# EAGLE library part PIOCONN (library pixel)
CONNECTOR 68-pin 1.27mm (.050 inch) pitch SCSI+ unshielded receptacle right angle all plastic
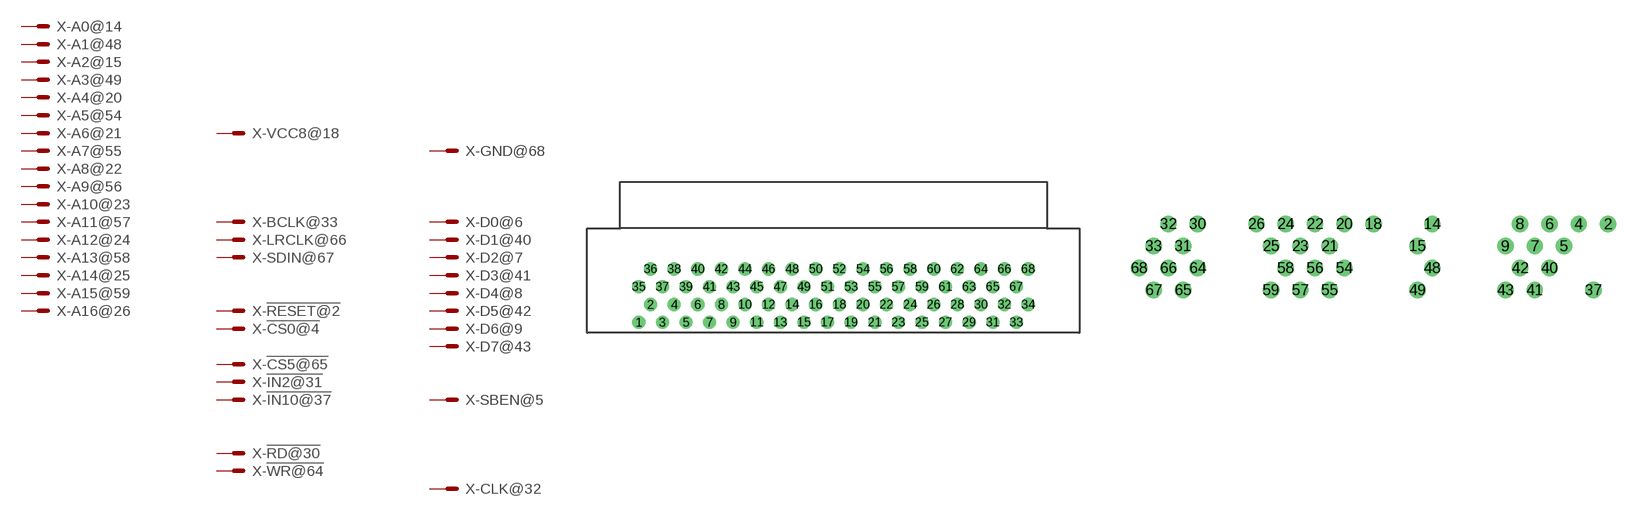
[diagram p17: symbol with the pads of PIOCONN-R; footprints PIOCONN-R, PIOCONN]

Designator prefix X; gates -!RESET@2=M -!CS0@4=M -SBEN@5=M -D0@6=M -D2@7=M -D4@8=M -D6@9=M -A0@14=M -A2@15=M -VCC8@18=M -A4@20=M -A6@21=M -A8@22=M -A10@23=M -A12@24=M -A14@25=M -A16@26=M -!RD@30=M -!IN2@31=M -CLK@32=M -BCLK@33=M -!IN10@37=M -D1@40=M -D3@41=M -D5@42=M -D7@43=M -A1@48=M -A3@49=M -A5@54=M -A7@55=M -A9@56=M -A11@57=M -A13@58=M -A15@59=M -!WR@64=M -!CS5@65=M -LRCLK@66=M -SDIN@67=M -GND@68=M

## PIOCONNPIOCONN-R (MF: MOLEX; OC_FARNELL: unknown; OC_NEWARK: unknown)  [PIOCONN-R]
2  -!RESET@2:S  pas
4  -!CS0@4:S  pas
5  -SBEN@5:S  pas
6  -D0@6:S  pas
7  -D2@7:S  pas
8  -D4@8:S  pas
9  -D6@9:S  pas
14  -A0@14:S  pas
15  -A2@15:S  pas
18  -VCC8@18:S  pas
20  -A4@20:S  pas
21  -A6@21:S  pas
22  -A8@22:S  pas
23  -A10@23:S  pas
24  -A12@24:S  pas
25  -A14@25:S  pas
26  -A16@26:S  pas
30  -!RD@30:S  pas
31  -!IN2@31:S  pas
32  -CLK@32:S  pas
33  -BCLK@33:S  pas
37  -!IN10@37:S  pas
40  -D1@40:S  pas
41  -D3@41:S  pas
42  -D5@42:S  pas
43  -D7@43:S  pas
48  -A1@48:S  pas
49  -A3@49:S  pas
54  -A5@54:S  pas
55  -A7@55:S  pas
56  -A9@56:S  pas
57  -A11@57:S  pas
58  -A13@58:S  pas
59  -A15@59:S  pas
64  -!WR@64:S  pas
65  -!CS5@65:S  pas
66  -LRCLK@66:S  pas
67  -SDIN@67:S  pas
68  -GND@68:S  pas

## PIOCONNPIOCONN-S  [PIOCONN]
Pads as for PIOCONN-R

## Footprint PIOCONN-R (pad centres in mm)
drill 0.9 pad 1.27: 1 -20.955,-5.73; 2 -19.685,-3.82; 3 -18.415,-5.73; 4 -17.145,-3.82; 5 -15.875,-5.73; 6 -14.605,-3.82; 7 -13.335,-5.73; 8 -12.065,-3.82; 9 -10.795,-5.73; 10 -9.525,-3.82; 11 -8.255,-5.73; 12 -6.985,-3.82; 13 -5.715,-5.73; 14 -4.445,-3.82; 15 -3.175,-5.73; 16 -1.905,-3.82; 17 -0.635,-5.73; 18 0.635,-3.82; 19 1.905,-5.73; 20 3.175,-3.82; 21 4.445,-5.73; 22 5.715,-3.82; 23 6.985,-5.73; 24 8.255,-3.82; 25 9.525,-5.73; 26 10.795,-3.82; 27 12.065,-5.73; 28 13.335,-3.82; 29 14.605,-5.73; 30 15.875,-3.82; 31 17.145,-5.73; 32 18.415,-3.82; 33 19.685,-5.73; 34 20.955,-3.82; 35 -20.955,-1.91; 36 -19.685,0; 37 -18.415,-1.91; 38 -17.145,0; 39 -15.875,-1.91; 40 -14.605,0; 41 -13.335,-1.91; 42 -12.065,0; 43 -10.795,-1.91; 44 -9.525,0; 45 -8.255,-1.91; 46 -6.985,0; 47 -5.715,-1.91; 48 -4.445,0; 49 -3.175,-1.91; 50 -1.905,0; 51 -0.635,-1.91; 52 0.635,0; 53 1.905,-1.91; 54 3.175,0; 55 4.445,-1.91; 56 5.715,0; 57 6.985,-1.91; 58 8.255,0; 59 9.525,-1.91; 60 10.795,0; 61 12.065,-1.91; 62 13.335,0; 63 14.605,-1.91; 64 15.875,0; 65 17.145,-1.91; 66 18.415,0; 67 19.685,-1.91; 68 20.955,0

## Footprint PIOCONN (pad centres in mm)
TE CONNECTIVITY / AMP - BUCHSE, SCSI, VERTIKAL, 68 Source: Data sheet <http://www.tycoelectronics.com/commerce/DocumentDelivery/DDEController?Action=srchrtrv&DocNm=5749069&DocType=Customer+Drawing&DocLang=English>
drill 0.9 pad 1.27: 2 19.685,2.863; 4 17.145,2.863; 5 15.875,0.953; 6 14.605,2.863; 7 13.335,0.953; 8 12.065,2.863; 9 10.795,0.953; 14 4.445,2.863; 15 3.175,0.953; 18 -0.635,2.863; 20 -3.175,2.863; 21 -4.445,0.953; 22 -5.715,2.863; 23 -6.985,0.953; 24 -8.255,2.863; 25 -9.525,0.953; 26 -10.795,2.863; 30 -15.875,2.863; 31 -17.145,0.953; 32 -18.415,2.863; 33 -19.685,0.953; 37 18.415,-2.867; 40 14.605,-0.957; 41 13.335,-2.867; 42 12.065,-0.957; 43 10.795,-2.867; 48 4.445,-0.957; 49 3.175,-2.867; 54 -3.175,-0.957; 55 -4.445,-2.867; 56 -5.715,-0.957; 57 -6.985,-2.867; 58 -8.255,-0.957; 59 -9.525,-2.867; 64 -15.875,-0.957; 65 -17.145,-2.867; 66 -18.415,-0.957; 67 -19.685,-2.867; 68 -20.955,-0.957